# Altium schematic symbol library 70553-0002.SchLib: 1 symbol
Pins are listed as number, name and electrical type; pins without a type are passive.

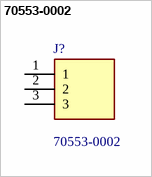
[diagram p0: symbol 70553-0002]

## 70553-0002
designator J?
Headers & Wire Housings R/A HDR 3P low profile single; Manufacturer_Name: Molex; Geometry.Height: 6.99mm; Manufacturer_Part_Number: 70553-0002; Mouser Part Number: 538-70553-0002; Mouser Price/Stock: https://www.mouser.co.uk/ProductDetail/Molex/70553-0002?qs=ZwgtpdmWYYSlNv8ZbhKL1w%3D%3D; Arrow Part Number: *; Arrow Price/Stock: *; Datasheet Link: https://www.molex.com/pdm_docs/sd/705530002_sd.pdf
footprint SHDRRA3W64P0X254_1X3_813X1359X699P
pins: 1, 2, 3